# EAGLE library part 74AUP1G58 (library BARUC)
Compuerta logica configurable (AND, OR, XOR, NOT etc) Ver datasheet para configurar
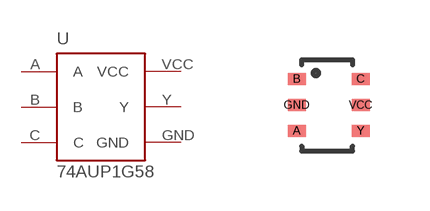
[diagram p1: symbol with the pads of SOT363; footprint SOT363]

Designator prefix -

## 74AUP1G58  [SOT363]
A  A  in
B  B  in
C  C  in
GND  GND  pwr
VCC  VCC  pwr
Y  Y  out

## Footprint SOT363 (pad centres in mm)
smd 0.45 x 0.3: A -0.762,-0.635; B -0.762,0.665; C 0.838,0.665; GND -0.762,0.015; VCC 0.838,0.015; Y 0.838,-0.635